# EAGLE library part RPI3 (library e14_Rpi3_RevA+mirror-pcb)
Device for Raspberry Pi 3 board created by Dave Young for www.element14.com More information and support community is available at https://www.element14.com/community/community/raspberry-pi Device for Raspberry Pi 3 board updated by Gerald Schwarz for www.element14.com On RPI3 addet the layer milling and created a mirrored shield.
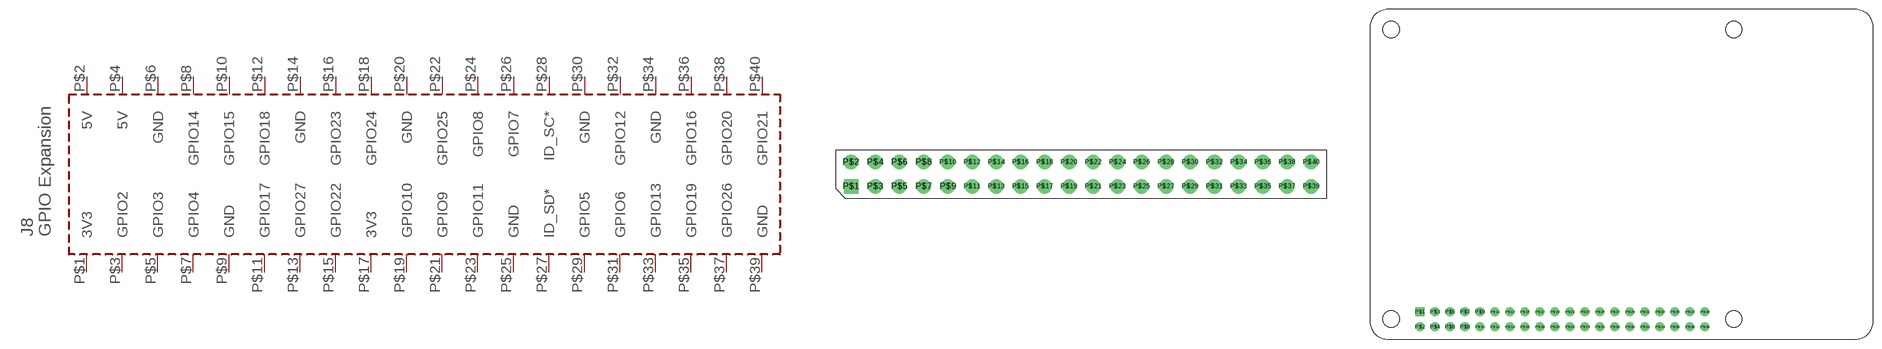
[diagram p0: symbol with the pads of RPI3; footprints RPI3, RPI3MIRROR]

Designator prefix PCB

## RPI3RPI3  [RPI3]
P$1  3V3
P$2  5V
P$3  GPIO2
P$4  5V
P$5  GPIO3
P$6  GND
P$7  GPIO4
P$8  GPIO14
P$9  GND
P$10  GPIO15
P$11  GPIO17
P$12  GPIO18
P$13  GPIO27
P$14  GND
P$15  GPIO22
P$16  GPIO23
P$17  3V3
P$18  GPIO24
P$19  GPIO10
P$20  GND
P$21  GPIO9
P$22  GPIO25
P$23  GPIO11
P$24  GPIO8
P$25  GND
P$26  GPIO7
P$27  ID_SD*
P$28  ID_SC*
P$29  GPIO5
P$30  GND
P$31  GPIO6
P$32  GPIO12
P$33  GPIO13
P$34  GND
P$35  GPIO19
P$36  GPIO16
P$37  GPIO26
P$38  GPIO20
P$39  GND
P$40  GPIO21

## RPI3RPI3MIRROR  [RPI3MIRROR]
Pads as for RPI3

## Footprint RPI3 (pad centres in mm)
Package for the Raspberry Pi 3 board created by Dave Young for www.elemenet14.com based on documented dimensions and board measurements. For more documentation, please visit http://www.raspberrypi.org/documentation/hardware/raspberrypi/
drill 1.016 square: P$1 -26.682,-1.348
drill 1.016: P$2 -26.695,1.194; P$3 -24.155,-1.346; P$4 -24.155,1.194; P$5 -21.615,-1.346; P$6 -21.615,1.194; P$7 -19.075,-1.346; P$8 -19.075,1.194; P$9 -16.535,-1.346; P$10 -16.535,1.194; P$11 -13.995,-1.346; P$12 -13.995,1.194; P$13 -11.455,-1.346; P$14 -11.455,1.194; P$15 -8.915,-1.346; P$16 -8.915,1.194; P$17 -6.375,-1.346; P$18 -6.375,1.194; P$19 -3.835,-1.346; P$20 -3.835,1.194; P$21 -1.295,-1.346; P$22 -1.295,1.194; P$23 1.245,-1.346; P$24 1.245,1.194; P$25 3.785,-1.346; P$26 3.785,1.194; P$27 6.325,-1.346; P$28 6.325,1.194; P$29 8.865,-1.346; P$30 8.865,1.194; P$31 11.405,-1.346; P$32 11.405,1.194; P$33 13.945,-1.346; P$34 13.945,1.194; P$35 16.485,-1.346; P$36 16.485,1.194; P$37 19.025,-1.346; P$38 19.025,1.194; P$39 21.565,-1.346; P$40 21.565,1.194

## Footprint RPI3MIRROR (pad centres in mm)
drill 1.016 square: P$1 8.37,4.775
drill 1.016: P$2 8.357,2.233; P$3 10.897,4.773; P$4 10.897,2.233; P$5 13.437,4.773; P$6 13.437,2.233; P$7 15.977,4.773; P$8 15.977,2.233; P$9 18.517,4.773; P$10 18.517,2.233; P$11 21.057,4.773; P$12 21.057,2.233; P$13 23.597,4.773; P$14 23.597,2.233; P$15 26.137,4.773; P$16 26.137,2.233; P$17 28.677,4.773; P$18 28.677,2.233; P$19 31.217,4.773; P$20 31.217,2.233; P$21 33.757,4.773; P$22 33.757,2.233; P$23 36.297,4.773; P$24 36.297,2.233; P$25 38.837,4.773; P$26 38.837,2.233; P$27 41.377,4.773; P$28 41.377,2.233; P$29 43.917,4.773; P$30 43.917,2.233; P$31 46.457,4.773; P$32 46.457,2.233; P$33 48.997,4.773; P$34 48.997,2.233; P$35 51.537,4.773; P$36 51.537,2.233; P$37 54.077,4.773; P$38 54.077,2.233; P$39 56.617,4.773; P$40 56.617,2.233
hole 2.75 at 3.5,52.505
hole 2.75 at 61.5,52.505
hole 2.75 at 3.5,3.505
hole 2.75 at 61.5,3.505